# Altium schematic symbol library WCAP-ATG5.SchLib: 204 symbols (part 1 of 4)
Pins are listed as number, name and electrical type; pins without a type are passive.

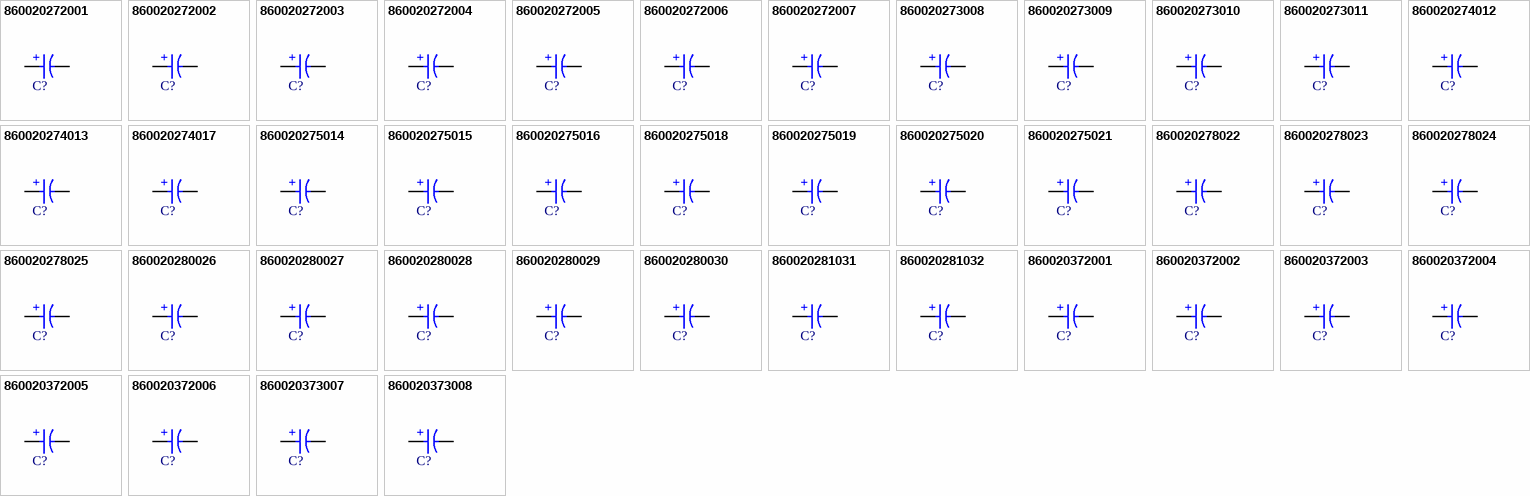
[diagram p0: symbols 860020272001 to 860020373008]

## 860020272001
designator C?, comment 22µF  (value not drawn)
WCAP-ATG5 Aluminum Electrolytic Capacitor, Radial, THT, D5 x H11mm, 22µF, 10V; Manufacturer Part Number: 860020272001; Manufacturer: Wurth Elektronik; Capacitance Tolerance: +/-20%; Dissipation Factor: 17%; Endurance: 2000h; Leakage Current: 3µA; Ripple Current: 45mA; Technical Reference: ATDC110220M010DSPA3B000; Category: Aluminum Electrolytic Capacitors; Match Code: WCAP-ATG5; ComponentLink1Description: Website Link; ComponentLink1URL: https://www.we-online.com/redexpert/article/860020272001?ad; ComponentLink2Description: Datasheet Link; ComponentLink2URL: https://www.we-online.com/redexpert/spec/860020272001?ad; Mount: Through Hole; Operating Temperature Max: 105°C; Operating Temperature Min: -40°C; Packaging: Ammo Pack; Height: 11mm; Diameter: 5mm; Capacitance: 22µF; Rated Voltage (DC): 10V
footprint WCAP-ATG5_D5H11
simulation model 860020272001_22uF
pins: 1 P, 2 N
text: +

## 860020272002
designator C?, comment 33µF  (value not drawn)
WCAP-ATG5 Aluminum Electrolytic Capacitor, Radial, THT, D5 x H11mm, 33µF, 10V; Manufacturer Part Number: 860020272002; Manufacturer: Wurth Elektronik; Capacitance Tolerance: +/-20%; Dissipation Factor: 17%; Endurance: 2000h; Leakage Current: 3.3µA; Ripple Current: 60mA; Technical Reference: ATDC110330M010DSPA3B000; Category: Aluminum Electrolytic Capacitors; Match Code: WCAP-ATG5; ComponentLink1Description: Website Link; ComponentLink1URL: https://www.we-online.com/redexpert/article/860020272002?ad; ComponentLink2Description: Datasheet Link; ComponentLink2URL: https://www.we-online.com/redexpert/spec/860020272002?ad; Mount: Through Hole; Operating Temperature Max: 105°C; Operating Temperature Min: -40°C; Packaging: Ammo Pack; Height: 11mm; Diameter: 5mm; Capacitance: 33µF; Rated Voltage (DC): 10V
footprint WCAP-ATG5_D5H11
simulation model 860020272002_33uF
pins: 1 P, 2 N
text: +

## 860020272003
designator C?, comment 47µF  (value not drawn)
WCAP-ATG5 Aluminum Electrolytic Capacitor, Radial, THT, D5 x H11mm, 47µF, 10V; Manufacturer Part Number: 860020272003; Manufacturer: Wurth Elektronik; Capacitance Tolerance: +/-20%; Dissipation Factor: 17%; Endurance: 2000h; Leakage Current: 4.7µA; Ripple Current: 70mA; Technical Reference: ATDC110470M010DSPA3B000; Category: Aluminum Electrolytic Capacitors; Match Code: WCAP-ATG5; ComponentLink1Description: Website Link; ComponentLink1URL: https://www.we-online.com/redexpert/article/860020272003?ad; ComponentLink2Description: Datasheet Link; ComponentLink2URL: https://www.we-online.com/redexpert/spec/860020272003?ad; Mount: Through Hole; Operating Temperature Max: 105°C; Operating Temperature Min: -40°C; Packaging: Ammo Pack; Height: 11mm; Diameter: 5mm; Capacitance: 47µF; Rated Voltage (DC): 10V
footprint WCAP-ATG5_D5H11
simulation model 860020272003_47uF
pins: 1 P, 2 N
text: +

## 860020272004
designator C?, comment 68µF  (value not drawn)
WCAP-ATG5 Aluminum Electrolytic Capacitor, Radial, THT, D5 x H11mm, 68µF, 10V; Manufacturer Part Number: 860020272004; Manufacturer: Wurth Elektronik; Capacitance Tolerance: +/-20%; Dissipation Factor: 17%; Endurance: 2000h; Leakage Current: 6.8µA; Ripple Current: 80mA; Technical Reference: ATDC110680M010DSPA3B000; Category: Aluminum Electrolytic Capacitors; Match Code: WCAP-ATG5; ComponentLink1Description: Website Link; ComponentLink1URL: https://www.we-online.com/redexpert/article/860020272004?ad; ComponentLink2Description: Datasheet Link; ComponentLink2URL: https://www.we-online.com/redexpert/spec/860020272004?ad; Mount: Through Hole; Operating Temperature Max: 105°C; Operating Temperature Min: -40°C; Packaging: Ammo Pack; Height: 11mm; Diameter: 5mm; Capacitance: 68µF; Rated Voltage (DC): 10V
footprint WCAP-ATG5_D5H11
simulation model 860020272004_68uF
pins: 1 P, 2 N
text: +

## 860020272005
designator C?, comment 100µF  (value not drawn)
WCAP-ATG5 Aluminum Electrolytic Capacitor, Radial, THT, D5 x H11mm, 100µF, 10V; Manufacturer Part Number: 860020272005; Manufacturer: Wurth Elektronik; Capacitance Tolerance: +/-20%; Dissipation Factor: 17%; Endurance: 2000h; Leakage Current: 10µA; Ripple Current: 105mA; Technical Reference: ATDC110101M010DSPA3B000; Category: Aluminum Electrolytic Capacitors; Match Code: WCAP-ATG5; ComponentLink1Description: Website Link; ComponentLink1URL: https://www.we-online.com/redexpert/article/860020272005?ad; ComponentLink2Description: Datasheet Link; ComponentLink2URL: https://www.we-online.com/redexpert/spec/860020272005?ad; Mount: Through Hole; Operating Temperature Max: 105°C; Operating Temperature Min: -40°C; Packaging: Ammo Pack; Height: 11mm; Diameter: 5mm; Capacitance: 100µF; Rated Voltage (DC): 10V
footprint WCAP-ATG5_D5H11
simulation model 860020272005_100uF
pins: 1 P, 2 N
text: +

## 860020272006
designator C?, comment 120µF  (value not drawn)
WCAP-ATG5 Aluminum Electrolytic Capacitor, Radial, THT, D5 x H11mm, 120µF, 10V; Manufacturer Part Number: 860020272006; Manufacturer: Wurth Elektronik; Capacitance Tolerance: +/-20%; Dissipation Factor: 17%; Endurance: 2000h; Leakage Current: 12µA; Ripple Current: 110mA; Technical Reference: ATDC110121M010DSPA3B000; Category: Aluminum Electrolytic Capacitors; Match Code: WCAP-ATG5; ComponentLink1Description: Website Link; ComponentLink1URL: https://www.we-online.com/redexpert/article/860020272006?ad; ComponentLink2Description: Datasheet Link; ComponentLink2URL: https://www.we-online.com/redexpert/spec/860020272006?ad; Mount: Through Hole; Operating Temperature Max: 105°C; Operating Temperature Min: -40°C; Packaging: Ammo Pack; Height: 11mm; Diameter: 5mm; Capacitance: 120µF; Rated Voltage (DC): 10V
footprint WCAP-ATG5_D5H11
simulation model 860020272006_120uF
pins: 1 P, 2 N
text: +

## 860020272007
designator C?, comment 150µF  (value not drawn)
WCAP-ATG5 Aluminum Electrolytic Capacitor, Radial, THT, D5 x H11mm, 150µF, 10V; Manufacturer Part Number: 860020272007; Manufacturer: Wurth Elektronik; Capacitance Tolerance: +/-20%; Dissipation Factor: 17%; Endurance: 2000h; Leakage Current: 15µA; Ripple Current: 120mA; Technical Reference: ATDC110151M010DSPA3B000; Category: Aluminum Electrolytic Capacitors; Match Code: WCAP-ATG5; ComponentLink1Description: Website Link; ComponentLink1URL: https://www.we-online.com/redexpert/article/860020272007?ad; ComponentLink2Description: Datasheet Link; ComponentLink2URL: https://www.we-online.com/redexpert/spec/860020272007?ad; Mount: Through Hole; Operating Temperature Max: 105°C; Operating Temperature Min: -40°C; Packaging: Ammo Pack; Height: 11mm; Diameter: 5mm; Capacitance: 150µF; Rated Voltage (DC): 10V
footprint WCAP-ATG5_D5H11
simulation model 860020272007_150uF
pins: 1 P, 2 N
text: +

## 860020273008
designator C?, comment 180µF  (value not drawn)
WCAP-ATG5 Aluminum Electrolytic Capacitor, Radial, THT, D6.3 x H11mm, 180µF, 10V; Manufacturer Part Number: 860020273008; Manufacturer: Wurth Elektronik; Capacitance Tolerance: +/-20%; Dissipation Factor: 17%; Endurance: 2000h; Leakage Current: 18µA; Ripple Current: 160mA; Technical Reference: ATDD110181M010DSPA4B000; Category: Aluminum Electrolytic Capacitors; Match Code: WCAP-ATG5; ComponentLink1Description: Website Link; ComponentLink1URL: https://www.we-online.com/redexpert/article/860020273008?ad; ComponentLink2Description: Datasheet Link; ComponentLink2URL: https://www.we-online.com/redexpert/spec/860020273008?ad; Mount: Through Hole; Operating Temperature Max: 105°C; Operating Temperature Min: -40°C; Packaging: Ammo Pack; Height: 11mm; Diameter: 6.3mm; Capacitance: 180µF; Rated Voltage (DC): 10V
footprint WCAP-ATG5_D6.3H11
simulation model 860020273008_180uF
pins: 1 P, 2 N
text: +

## 860020273009
designator C?, comment 220µF  (value not drawn)
WCAP-ATG5 Aluminum Electrolytic Capacitor, Radial, THT, D6.3 x H11mm, 220µF, 10V; Manufacturer Part Number: 860020273009; Manufacturer: Wurth Elektronik; Capacitance Tolerance: +/-20%; Dissipation Factor: 17%; Endurance: 2000h; Leakage Current: 22µA; Ripple Current: 175mA; Technical Reference: ATDD110221M010DSPA4B000; Category: Aluminum Electrolytic Capacitors; Match Code: WCAP-ATG5; ComponentLink1Description: Website Link; ComponentLink1URL: https://www.we-online.com/redexpert/article/860020273009?ad; ComponentLink2Description: Datasheet Link; ComponentLink2URL: https://www.we-online.com/redexpert/spec/860020273009?ad; Mount: Through Hole; Operating Temperature Max: 105°C; Operating Temperature Min: -40°C; Packaging: Ammo Pack; Height: 11mm; Diameter: 6.3mm; Capacitance: 220µF; Rated Voltage (DC): 10V
footprint WCAP-ATG5_D6.3H11
simulation model 860020273009_220uF
pins: 1 P, 2 N
text: +

## 860020273010
designator C?, comment 330µF  (value not drawn)
WCAP-ATG5 Aluminum Electrolytic Capacitor, Radial, THT, D6.3 x H11mm, 330µF, 10V; Manufacturer Part Number: 860020273010; Manufacturer: Wurth Elektronik; Capacitance Tolerance: +/-20%; Dissipation Factor: 17%; Endurance: 2000h; Leakage Current: 33µA; Ripple Current: 205mA; Technical Reference: ATDD110331M010DSPA4B000; Category: Aluminum Electrolytic Capacitors; Match Code: WCAP-ATG5; ComponentLink1Description: Website Link; ComponentLink1URL: https://www.we-online.com/redexpert/article/860020273010?ad; ComponentLink2Description: Datasheet Link; ComponentLink2URL: https://www.we-online.com/redexpert/spec/860020273010?ad; Mount: Through Hole; Operating Temperature Max: 105°C; Operating Temperature Min: -40°C; Packaging: Ammo Pack; Height: 11mm; Diameter: 6.3mm; Capacitance: 330µF; Rated Voltage (DC): 10V
footprint WCAP-ATG5_D6.3H11
simulation model 860020273010_330uF
pins: 1 P, 2 N
text: +

## 860020273011
designator C?, comment 470µF  (value not drawn)
WCAP-ATG5 Aluminum Electrolytic Capacitor, Radial, THT, D6.3 x H11mm, 470µF, 10V; Manufacturer Part Number: 860020273011; Manufacturer: Wurth Elektronik; Capacitance Tolerance: +/-20%; Dissipation Factor: 17%; Endurance: 2000h; Leakage Current: 47µA; Ripple Current: 235mA; Technical Reference: ATDD110471M010DSPA4B000; Category: Aluminum Electrolytic Capacitors; Match Code: WCAP-ATG5; ComponentLink1Description: Website Link; ComponentLink1URL: https://www.we-online.com/redexpert/article/860020273011?ad; ComponentLink2Description: Datasheet Link; ComponentLink2URL: https://www.we-online.com/redexpert/spec/860020273011?ad; Mount: Through Hole; Operating Temperature Max: 105°C; Operating Temperature Min: -40°C; Packaging: Ammo Pack; Height: 11mm; Diameter: 6.3mm; Capacitance: 470µF; Rated Voltage (DC): 10V
footprint WCAP-ATG5_D6.3H11
simulation model 860020273011_470uF
pins: 1 P, 2 N
text: +

## 860020274012
designator C?, comment 560µF  (value not drawn)
WCAP-ATG5 Aluminum Electrolytic Capacitor, Radial, THT, D8 x H11.5mm, 560µF, 10V; Manufacturer Part Number: 860020274012; Manufacturer: Wurth Elektronik; Capacitance Tolerance: +/-20%; Dissipation Factor: 17%; Endurance: 2000h; Leakage Current: 56µA; Ripple Current: 330mA; Technical Reference: ATDE115561M010DSPA7B000; Category: Aluminum Electrolytic Capacitors; Match Code: WCAP-ATG5; ComponentLink1Description: Website Link; ComponentLink1URL: https://www.we-online.com/redexpert/article/860020274012?ad; ComponentLink2Description: Datasheet Link; ComponentLink2URL: https://www.we-online.com/redexpert/spec/860020274012?ad; Mount: Through Hole; Operating Temperature Max: 105°C; Operating Temperature Min: -40°C; Packaging: Ammo Pack; Height: 11.5mm; Diameter: 8mm; Capacitance: 560µF; Rated Voltage (DC): 10V
footprint WCAP-ATG5_D8H11.5
simulation model 860020274012_560uF
pins: 1 P, 2 N
text: +

## 860020274013
designator C?, comment 680µF  (value not drawn)
WCAP-ATG5 Aluminum Electrolytic Capacitor, Radial, THT, D8 x H11.5mm, 680µF, 10V; Manufacturer Part Number: 860020274013; Manufacturer: Wurth Elektronik; Capacitance Tolerance: +/-20%; Dissipation Factor: 17%; Endurance: 2000h; Leakage Current: 68µA; Ripple Current: 365mA; Technical Reference: ATDE115681M010DSPA7B000; Category: Aluminum Electrolytic Capacitors; Match Code: WCAP-ATG5; ComponentLink1Description: Website Link; ComponentLink1URL: https://www.we-online.com/redexpert/article/860020274013?ad; ComponentLink2Description: Datasheet Link; ComponentLink2URL: https://www.we-online.com/redexpert/spec/860020274013?ad; Mount: Through Hole; Operating Temperature Max: 105°C; Operating Temperature Min: -40°C; Packaging: Ammo Pack; Height: 11.5mm; Diameter: 8mm; Capacitance: 680µF; Rated Voltage (DC): 10V
footprint WCAP-ATG5_D8H11.5
simulation model 860020274013_680uF
pins: 1 P, 2 N
text: +

## 860020274017
designator C?, comment 1500µF  (value not drawn)
WCAP-ATG5 Aluminum Electrolytic Capacitor, Radial, THT, D8 x H20mm, 1500µF, 10V; Manufacturer Part Number: 860020274017; Manufacturer: Wurth Elektronik; Capacitance Tolerance: +/-20%; Dissipation Factor: 17%; Endurance: 2000h; Leakage Current: 150µA; Ripple Current: 715mA; Technical Reference: ATDE200152M010DSPA7B000; Category: Aluminum Electrolytic Capacitors; Match Code: WCAP-ATG5; ComponentLink1Description: Website Link; ComponentLink1URL: https://www.we-online.com/redexpert/article/860020274017?ad; ComponentLink2Description: Datasheet Link; ComponentLink2URL: https://www.we-online.com/redexpert/spec/860020274017?ad; Mount: Through Hole; Operating Temperature Max: 105°C; Operating Temperature Min: -40°C; Packaging: Ammo Pack; Height: 20mm; Diameter: 8mm; Capacitance: 1500µF; Rated Voltage (DC): 10V
footprint WCAP-ATG5_D8H20
simulation model 860020274017_1.5mF
pins: 1 P, 2 N
text: +

## 860020275014
designator C?, comment 820µF  (value not drawn)
WCAP-ATG5 Aluminum Electrolytic Capacitor, Radial, THT, D10 x H12.5mm, 820µF, 10V; Manufacturer Part Number: 860020275014; Manufacturer: Wurth Elektronik; Capacitance Tolerance: +/-20%; Dissipation Factor: 17%; Endurance: 2000h; Leakage Current: 82µA; Ripple Current: 480mA; Technical Reference: ATDF125821M010DSPA9B000; Category: Aluminum Electrolytic Capacitors; Match Code: WCAP-ATG5; ComponentLink1Description: Website Link; ComponentLink1URL: https://www.we-online.com/redexpert/article/860020275014?ad; ComponentLink2Description: Datasheet Link; ComponentLink2URL: https://www.we-online.com/redexpert/spec/860020275014?ad; Mount: Through Hole; Operating Temperature Max: 105°C; Operating Temperature Min: -40°C; Packaging: Ammo Pack; Height: 12.5mm; Diameter: 10mm; Capacitance: 820µF; Rated Voltage (DC): 10V
footprint WCAP-ATG5_D10H12.5
simulation model 860020275014_820uF
pins: 1 P, 2 N
text: +

## 860020275015
designator C?, comment 1000µF  (value not drawn)
WCAP-ATG5 Aluminum Electrolytic Capacitor, Radial, THT, D10 x H12.5mm, 1000µF, 10V; Manufacturer Part Number: 860020275015; Manufacturer: Wurth Elektronik; Capacitance Tolerance: +/-20%; Dissipation Factor: 17%; Endurance: 2000h; Leakage Current: 100µA; Ripple Current: 520mA; Technical Reference: ATDF125102M010DSPA9B000; Category: Aluminum Electrolytic Capacitors; Match Code: WCAP-ATG5; ComponentLink1Description: Website Link; ComponentLink1URL: https://www.we-online.com/redexpert/article/860020275015?ad; ComponentLink2Description: Datasheet Link; ComponentLink2URL: https://www.we-online.com/redexpert/spec/860020275015?ad; Mount: Through Hole; Operating Temperature Max: 105°C; Operating Temperature Min: -40°C; Packaging: Ammo Pack; Height: 12.5mm; Diameter: 10mm; Capacitance: 1000µF; Rated Voltage (DC): 10V
footprint WCAP-ATG5_D10H12.5
simulation model 860020275015_1mF
pins: 1 P, 2 N
text: +

## 860020275016
designator C?, comment 1200µF  (value not drawn)
WCAP-ATG5 Aluminum Electrolytic Capacitor, Radial, THT, D10 x H16mm, 1200µF, 10V; Manufacturer Part Number: 860020275016; Manufacturer: Wurth Elektronik; Capacitance Tolerance: +/-20%; Dissipation Factor: 17%; Endurance: 2000h; Leakage Current: 120µA; Ripple Current: 630mA; Technical Reference: ATDF160122M010DSPAAB000; Category: Aluminum Electrolytic Capacitors; Match Code: WCAP-ATG5; ComponentLink1Description: Website Link; ComponentLink1URL: https://www.we-online.com/redexpert/article/860020275016?ad; ComponentLink2Description: Datasheet Link; ComponentLink2URL: https://www.we-online.com/redexpert/spec/860020275016?ad; Mount: Through Hole; Operating Temperature Max: 105°C; Operating Temperature Min: -40°C; Packaging: Ammo Pack; Height: 16mm; Diameter: 10mm; Capacitance: 1200µF; Rated Voltage (DC): 10V
footprint WCAP-ATG5_D10H16
simulation model 860020275016_1.2mF
pins: 1 P, 2 N
text: +

## 860020275018
designator C?, comment 1500µF  (value not drawn)
WCAP-ATG5 Aluminum Electrolytic Capacitor, Radial, THT, D10 x H16mm, 1500µF, 10V; Manufacturer Part Number: 860020275018; Manufacturer: Wurth Elektronik; Capacitance Tolerance: +/-20%; Dissipation Factor: 17%; Endurance: 2000h; Leakage Current: 150µA; Ripple Current: 770mA; Technical Reference: ATDF160152M010DSPAAB000; Category: Aluminum Electrolytic Capacitors; Match Code: WCAP-ATG5; ComponentLink1Description: Website Link; ComponentLink1URL: https://www.we-online.com/redexpert/article/860020275018?ad; ComponentLink2Description: Datasheet Link; ComponentLink2URL: https://www.we-online.com/redexpert/spec/860020275018?ad; Mount: Through Hole; Operating Temperature Max: 105°C; Operating Temperature Min: -40°C; Packaging: Ammo Pack; Height: 16mm; Diameter: 10mm; Capacitance: 1500µF; Rated Voltage (DC): 10V
footprint WCAP-ATG5_D10H16
simulation model 860020275018_1.5mF
pins: 1 P, 2 N
text: +

## 860020275019
designator C?, comment 1800µF  (value not drawn)
WCAP-ATG5 Aluminum Electrolytic Capacitor, Radial, THT, D10 x H20mm, 1800µF, 10V; Manufacturer Part Number: 860020275019; Manufacturer: Wurth Elektronik; Capacitance Tolerance: +/-20%; Dissipation Factor: 17%; Endurance: 2000h; Leakage Current: 180µA; Ripple Current: 820mA; Technical Reference: ATDF200182M010DSPAAB000; Category: Aluminum Electrolytic Capacitors; Match Code: WCAP-ATG5; ComponentLink1Description: Website Link; ComponentLink1URL: https://www.we-online.com/redexpert/article/860020275019?ad; ComponentLink2Description: Datasheet Link; ComponentLink2URL: https://www.we-online.com/redexpert/spec/860020275019?ad; Mount: Through Hole; Operating Temperature Max: 105°C; Operating Temperature Min: -40°C; Packaging: Ammo Pack; Height: 20mm; Diameter: 10mm; Capacitance: 1800µF; Rated Voltage (DC): 10V
footprint WCAP-ATG5_D10H20
simulation model 860020275019_1.8mF
pins: 1 P, 2 N
text: +

## 860020275020
designator C?, comment 2200µF  (value not drawn)
WCAP-ATG5 Aluminum Electrolytic Capacitor, Radial, THT, D10 x H20mm, 2200µF, 10V; Manufacturer Part Number: 860020275020; Manufacturer: Wurth Elektronik; Capacitance Tolerance: +/-20%; Dissipation Factor: 17%; Endurance: 2000h; Leakage Current: 220µA; Ripple Current: 860mA; Technical Reference: ATDF200222M010DSPAAB000; Category: Aluminum Electrolytic Capacitors; Match Code: WCAP-ATG5; ComponentLink1Description: Website Link; ComponentLink1URL: https://www.we-online.com/redexpert/article/860020275020?ad; ComponentLink2Description: Datasheet Link; ComponentLink2URL: https://www.we-online.com/redexpert/spec/860020275020?ad; Mount: Through Hole; Operating Temperature Max: 105°C; Operating Temperature Min: -40°C; Packaging: Ammo Pack; Height: 20mm; Diameter: 10mm; Capacitance: 2200µF; Rated Voltage (DC): 10V
footprint WCAP-ATG5_D10H20
simulation model 860020275020_2.2mF
pins: 1 P, 2 N
text: +

## 860020275021
designator C?, comment 2700µF  (value not drawn)
WCAP-ATG5 Aluminum Electrolytic Capacitor, Radial, THT, D10 x H25mm, 2700µF, 10V; Manufacturer Part Number: 860020275021; Manufacturer: Wurth Elektronik; Capacitance Tolerance: +/-20%; Dissipation Factor: 17%; Endurance: 2000h; Leakage Current: 270µA; Ripple Current: 880mA; Technical Reference: ATDF250272M010DSPAAB000; Category: Aluminum Electrolytic Capacitors; Match Code: WCAP-ATG5; ComponentLink1Description: Website Link; ComponentLink1URL: https://www.we-online.com/redexpert/article/860020275021?ad; ComponentLink2Description: Datasheet Link; ComponentLink2URL: https://www.we-online.com/redexpert/spec/860020275021?ad; Mount: Through Hole; Operating Temperature Max: 105°C; Operating Temperature Min: -40°C; Packaging: Ammo Pack; Height: 25mm; Diameter: 10mm; Capacitance: 2700µF; Rated Voltage (DC): 10V
footprint WCAP-ATG5_D10H25
simulation model 860020275021_2.7mF
pins: 1 P, 2 N
text: +

## 860020278022
designator C?, comment 2700µF  (value not drawn)
WCAP-ATG5 Aluminum Electrolytic Capacitor, Radial, THT, D13 x H20mm, 2700µF, 10V; Manufacturer Part Number: 860020278022; Manufacturer: Wurth Elektronik; Capacitance Tolerance: +/-20%; Dissipation Factor: 17%; Endurance: 2000h; Leakage Current: 270µA; Ripple Current: 920mA; Technical Reference: ATDI200272M010DSPACB000; Category: Aluminum Electrolytic Capacitors; Match Code: WCAP-ATG5; ComponentLink1Description: Website Link; ComponentLink1URL: https://www.we-online.com/redexpert/article/860020278022?ad; ComponentLink2Description: Datasheet Link; ComponentLink2URL: https://www.we-online.com/redexpert/spec/860020278022?ad; Mount: Through Hole; Operating Temperature Max: 105°C; Operating Temperature Min: -40°C; Packaging: Ammo Pack; Height: 20mm; Diameter: 13mm; Capacitance: 2700µF; Rated Voltage (DC): 10V
footprint WCAP-ATG5_D13H20
simulation model 860020278022_2.7mF
pins: 1 P, 2 N
text: +

## 860020278023
designator C?, comment 3300µF  (value not drawn)
WCAP-ATG5 Aluminum Electrolytic Capacitor, Radial, THT, D13 x H20mm, 3300µF, 10V; Manufacturer Part Number: 860020278023; Manufacturer: Wurth Elektronik; Capacitance Tolerance: +/-20%; Dissipation Factor: 17%; Endurance: 2000h; Leakage Current: 330µA; Ripple Current: 1100mA; Technical Reference: ATDI200332M010DSPACB000; Category: Aluminum Electrolytic Capacitors; Match Code: WCAP-ATG5; ComponentLink1Description: Website Link; ComponentLink1URL: https://www.we-online.com/redexpert/article/860020278023?ad; ComponentLink2Description: Datasheet Link; ComponentLink2URL: https://www.we-online.com/redexpert/spec/860020278023?ad; Mount: Through Hole; Operating Temperature Max: 105°C; Operating Temperature Min: -40°C; Packaging: Ammo Pack; Height: 20mm; Diameter: 13mm; Capacitance: 3300µF; Rated Voltage (DC): 10V
footprint WCAP-ATG5_D13H20
simulation model 860020278023_3.3mF
pins: 1 P, 2 N
text: +

## 860020278024
designator C?, comment 3900µF  (value not drawn)
WCAP-ATG5 Aluminum Electrolytic Capacitor, Radial, THT, D13 x H20mm, 3900µF, 10V; Manufacturer Part Number: 860020278024; Manufacturer: Wurth Elektronik; Capacitance Tolerance: +/-20%; Dissipation Factor: 17%; Endurance: 2000h; Leakage Current: 390µA; Ripple Current: 1280mA; Technical Reference: ATDI200392M010DSPACB000; Category: Aluminum Electrolytic Capacitors; Match Code: WCAP-ATG5; ComponentLink1Description: Website Link; ComponentLink1URL: https://www.we-online.com/redexpert/article/860020278024?ad; ComponentLink2Description: Datasheet Link; ComponentLink2URL: https://www.we-online.com/redexpert/spec/860020278024?ad; Mount: Through Hole; Operating Temperature Max: 105°C; Operating Temperature Min: -40°C; Packaging: Ammo Pack; Height: 20mm; Diameter: 13mm; Capacitance: 3900µF; Rated Voltage (DC): 10V
footprint WCAP-ATG5_D13H20
simulation model 860020278024_3.9mF
pins: 1 P, 2 N
text: +

## 860020278025
designator C?, comment 4700µF  (value not drawn)
WCAP-ATG5 Aluminum Electrolytic Capacitor, Radial, THT, D13 x H25mm, 4700µF, 10V; Manufacturer Part Number: 860020278025; Manufacturer: Wurth Elektronik; Capacitance Tolerance: +/-20%; Dissipation Factor: 17%; Endurance: 2000h; Leakage Current: 470µA; Ripple Current: 1350mA; Technical Reference: ATDI250472M010DSPACB000; Category: Aluminum Electrolytic Capacitors; Match Code: WCAP-ATG5; ComponentLink1Description: Website Link; ComponentLink1URL: https://www.we-online.com/redexpert/article/860020278025?ad; ComponentLink2Description: Datasheet Link; ComponentLink2URL: https://www.we-online.com/redexpert/spec/860020278025?ad; Mount: Through Hole; Operating Temperature Max: 105°C; Operating Temperature Min: -40°C; Packaging: Ammo Pack; Height: 25mm; Diameter: 13mm; Capacitance: 4700µF; Rated Voltage (DC): 10V
footprint WCAP-ATG5_D13H25
simulation model 860020278025_4.7mF
pins: 1 P, 2 N
text: +

## 860020280026
designator C?, comment 5600µF  (value not drawn)
WCAP-ATG5 Aluminum Electrolytic Capacitor, Radial, THT, D16 x H25mm, 5600µF, 10V; Manufacturer Part Number: 860020280026; Manufacturer: Wurth Elektronik; Capacitance Tolerance: +/-20%; Dissipation Factor: 17%; Endurance: 2000h; Leakage Current: 560µA; Ripple Current: 1490mA; Technical Reference: ATDK250562M010DSPAEB000; Category: Aluminum Electrolytic Capacitors; Match Code: WCAP-ATG5; ComponentLink1Description: Website Link; ComponentLink1URL: https://www.we-online.com/redexpert/article/860020280026?ad; ComponentLink2Description: Datasheet Link; ComponentLink2URL: https://www.we-online.com/redexpert/spec/860020280026?ad; Mount: Through Hole; Operating Temperature Max: 105°C; Operating Temperature Min: -40°C; Packaging: Ammo Pack; Height: 25mm; Diameter: 16mm; Capacitance: 5600µF; Rated Voltage (DC): 10V
footprint WCAP-ATG5_D16H25
simulation model 860020280026_5.6mF
pins: 1 P, 2 N
text: +

## 860020280027
designator C?, comment 6800µF  (value not drawn)
WCAP-ATG5 Aluminum Electrolytic Capacitor, Radial, THT, D16 x H25mm, 6800µF, 10V; Manufacturer Part Number: 860020280027; Manufacturer: Wurth Elektronik; Capacitance Tolerance: +/-20%; Dissipation Factor: 17%; Endurance: 2000h; Leakage Current: 680µA; Ripple Current: 1670mA; Technical Reference: ATDK250682M010DSPAEB000; Category: Aluminum Electrolytic Capacitors; Match Code: WCAP-ATG5; ComponentLink1Description: Website Link; ComponentLink1URL: https://www.we-online.com/redexpert/article/860020280027?ad; ComponentLink2Description: Datasheet Link; ComponentLink2URL: https://www.we-online.com/redexpert/spec/860020280027?ad; Mount: Through Hole; Operating Temperature Max: 105°C; Operating Temperature Min: -40°C; Packaging: Ammo Pack; Height: 25mm; Diameter: 16mm; Capacitance: 6800µF; Rated Voltage (DC): 10V
footprint WCAP-ATG5_D16H25
simulation model 860020280027_6.8mF
pins: 1 P, 2 N
text: +

## 860020280028
designator C?, comment 8200µF  (value not drawn)
WCAP-ATG5 Aluminum Electrolytic Capacitor, Radial, THT, D16 x H31.5mm, 8200µF, 10V; Manufacturer Part Number: 860020280028; Manufacturer: Wurth Elektronik; Capacitance Tolerance: +/-20%; Dissipation Factor: 17%; Endurance: 2000h; Leakage Current: 820µA; Ripple Current: 1840mA; Technical Reference: ATDK315822M010DSPADB000; Category: Aluminum Electrolytic Capacitors; Match Code: WCAP-ATG5; ComponentLink1Description: Website Link; ComponentLink1URL: https://www.we-online.com/redexpert/article/860020280028?ad; ComponentLink2Description: Datasheet Link; ComponentLink2URL: https://www.we-online.com/redexpert/spec/860020280028?ad; Mount: Through Hole; Operating Temperature Max: 105°C; Operating Temperature Min: -40°C; Packaging: Ammo Pack; Height: 31.5mm; Diameter: 16mm; Capacitance: 8200µF; Rated Voltage (DC): 10V
footprint WCAP-ATG5_D16H31.5
simulation model 860020280028_8.2mF
pins: 1 P, 2 N
text: +

## 860020280029
designator C?, comment 10000µF  (value not drawn)
WCAP-ATG5 Aluminum Electrolytic Capacitor, Radial, THT, D16 x H35.5mm, 10000µF, 10V; Manufacturer Part Number: 860020280029; Manufacturer: Wurth Elektronik; Capacitance Tolerance: +/-20%; Dissipation Factor: 17%; Endurance: 2000h; Leakage Current: 1000µA; Ripple Current: 1900mA; Technical Reference: ATDK355103M010DSPADB000; Category: Aluminum Electrolytic Capacitors; Match Code: WCAP-ATG5; ComponentLink1Description: Website Link; ComponentLink1URL: https://www.we-online.com/redexpert/article/860020280029?ad; ComponentLink2Description: Datasheet Link; ComponentLink2URL: https://www.we-online.com/redexpert/spec/860020280029?ad; Mount: Through Hole; Operating Temperature Max: 105°C; Operating Temperature Min: -40°C; Packaging: Ammo Pack; Height: 35.5mm; Diameter: 16mm; Capacitance: 10000µF; Rated Voltage (DC): 10V
footprint WCAP-ATG5_D16H35.5
simulation model 860020280029_10mF
pins: 1 P, 2 N
text: +

## 860020280030
designator C?, comment 12000µF  (value not drawn)
WCAP-ATG5 Aluminum Electrolytic Capacitor, Radial, THT, D16 x H35.5mm, 12000µF, 10V; Manufacturer Part Number: 860020280030; Manufacturer: Wurth Elektronik; Capacitance Tolerance: +/-20%; Dissipation Factor: 17%; Endurance: 2000h; Leakage Current: 1200µA; Ripple Current: 2050mA; Technical Reference: ATDK355123M010DSPADB000; Category: Aluminum Electrolytic Capacitors; Match Code: WCAP-ATG5; ComponentLink1Description: Website Link; ComponentLink1URL: https://www.we-online.com/redexpert/article/860020280030?ad; ComponentLink2Description: Datasheet Link; ComponentLink2URL: https://www.we-online.com/redexpert/spec/860020280030?ad; Mount: Through Hole; Operating Temperature Max: 105°C; Operating Temperature Min: -40°C; Packaging: Ammo Pack; Height: 35.5mm; Diameter: 16mm; Capacitance: 12000µF; Rated Voltage (DC): 10V
footprint WCAP-ATG5_D16H35.5
simulation model 860020280030_12mF
pins: 1 P, 2 N
text: +

## 860020281031
designator C?, comment 15000µF  (value not drawn)
WCAP-ATG5 Aluminum Electrolytic Capacitor, Radial, THT, D18 x H35.5mm, 15000µF, 10V; Manufacturer Part Number: 860020281031; Manufacturer: Wurth Elektronik; Capacitance Tolerance: +/-20%; Dissipation Factor: 17%; Endurance: 2000h; Leakage Current: 1500µA; Ripple Current: 2180mA; Technical Reference: ATDL355153M010DSPAEB000; Category: Aluminum Electrolytic Capacitors; Match Code: WCAP-ATG5; ComponentLink1Description: Website Link; ComponentLink1URL: https://www.we-online.com/redexpert/article/860020281031?ad; ComponentLink2Description: Datasheet Link; ComponentLink2URL: https://www.we-online.com/redexpert/spec/860020281031?ad; Mount: Through Hole; Operating Temperature Max: 105°C; Operating Temperature Min: -40°C; Packaging: Ammo Pack; Height: 35.5mm; Diameter: 18mm; Capacitance: 15000µF; Rated Voltage (DC): 10V
footprint WCAP-ATG5_D18H35.5
simulation model 860020281031_15mF
pins: 1 P, 2 N
text: +

## 860020281032
designator C?, comment 18000µF  (value not drawn)
WCAP-ATG5 Aluminum Electrolytic Capacitor, Radial, THT, D18 x H35.5mm, 18000µF, 10V; Manufacturer Part Number: 860020281032; Manufacturer: Wurth Elektronik; Capacitance Tolerance: +/-20%; Dissipation Factor: 17%; Endurance: 2000h; Leakage Current: 1800µA; Ripple Current: 2205mA; Technical Reference: ATDL355183M010DSPAEB000; Category: Aluminum Electrolytic Capacitors; Match Code: WCAP-ATG5; ComponentLink1Description: Website Link; ComponentLink1URL: https://www.we-online.com/redexpert/article/860020281032?ad; ComponentLink2Description: Datasheet Link; ComponentLink2URL: https://www.we-online.com/redexpert/spec/860020281032?ad; Mount: Through Hole; Operating Temperature Max: 105°C; Operating Temperature Min: -40°C; Packaging: Ammo Pack; Height: 35.5mm; Diameter: 18mm; Capacitance: 18000µF; Rated Voltage (DC): 10V
footprint WCAP-ATG5_D18H35.5
simulation model 860020281032_18mF
pins: 1 P, 2 N
text: +

## 860020372001
designator C?, comment 10µF  (value not drawn)
WCAP-ATG5 Aluminum Electrolytic Capacitor, Radial, THT, D5 x H11mm, 10µF, 16V; Manufacturer Part Number: 860020372001; Manufacturer: Wurth Elektronik; Capacitance Tolerance: +/-20%; Dissipation Factor: 15%; Endurance: 2000h; Leakage Current: 3µA; Ripple Current: 35mA; Technical Reference: ATDC110100M016DSPA3B000; Category: Aluminum Electrolytic Capacitors; Match Code: WCAP-ATG5; ComponentLink1Description: Website Link; ComponentLink1URL: https://www.we-online.com/redexpert/article/860020372001?ad; ComponentLink2Description: Datasheet Link; ComponentLink2URL: https://www.we-online.com/redexpert/spec/860020372001?ad; Mount: Through Hole; Operating Temperature Max: 105°C; Operating Temperature Min: -40°C; Packaging: Ammo Pack; Height: 11mm; Diameter: 5mm; Capacitance: 10µF; Rated Voltage (DC): 16V
footprint WCAP-ATG5_D5H11
simulation model 860020372001_10uF
pins: 1 P, 2 N
text: +

## 860020372002
designator C?, comment 22µF  (value not drawn)
WCAP-ATG5 Aluminum Electrolytic Capacitor, Radial, THT, D5 x H11mm, 22µF, 16V; Manufacturer Part Number: 860020372002; Manufacturer: Wurth Elektronik; Capacitance Tolerance: +/-20%; Dissipation Factor: 15%; Endurance: 2000h; Leakage Current: 3.52µA; Ripple Current: 54mA; Technical Reference: ATDC110220M016DSPA3B000; Category: Aluminum Electrolytic Capacitors; Match Code: WCAP-ATG5; ComponentLink1Description: Website Link; ComponentLink1URL: https://www.we-online.com/redexpert/article/860020372002?ad; ComponentLink2Description: Datasheet Link; ComponentLink2URL: https://www.we-online.com/redexpert/spec/860020372002?ad; Mount: Through Hole; Operating Temperature Max: 105°C; Operating Temperature Min: -40°C; Packaging: Ammo Pack; Height: 11mm; Diameter: 5mm; Capacitance: 22µF; Rated Voltage (DC): 16V
footprint WCAP-ATG5_D5H11
simulation model 860020372002_22uF
pins: 1 P, 2 N
text: +

## 860020372003
designator C?, comment 33µF  (value not drawn)
WCAP-ATG5 Aluminum Electrolytic Capacitor, Radial, THT, D5 x H11mm, 33µF, 16V; Manufacturer Part Number: 860020372003; Manufacturer: Wurth Elektronik; Capacitance Tolerance: +/-20%; Dissipation Factor: 15%; Endurance: 2000h; Leakage Current: 5.28µA; Ripple Current: 64mA; Technical Reference: ATDC110330M016DSPA3B000; Category: Aluminum Electrolytic Capacitors; Match Code: WCAP-ATG5; ComponentLink1Description: Website Link; ComponentLink1URL: https://www.we-online.com/redexpert/article/860020372003?ad; ComponentLink2Description: Datasheet Link; ComponentLink2URL: https://www.we-online.com/redexpert/spec/860020372003?ad; Mount: Through Hole; Operating Temperature Max: 105°C; Operating Temperature Min: -40°C; Packaging: Ammo Pack; Height: 11mm; Diameter: 5mm; Capacitance: 33µF; Rated Voltage (DC): 16V
footprint WCAP-ATG5_D5H11
simulation model 860020372003_33uF
pins: 1 P, 2 N
text: +

## 860020372004
designator C?, comment 47µF  (value not drawn)
WCAP-ATG5 Aluminum Electrolytic Capacitor, Radial, THT, D5 x H11mm, 47µF, 16V; Manufacturer Part Number: 860020372004; Manufacturer: Wurth Elektronik; Capacitance Tolerance: +/-20%; Dissipation Factor: 15%; Endurance: 2000h; Leakage Current: 7.52µA; Ripple Current: 100mA; Technical Reference: ATDC110470M016DSPA3B000; Category: Aluminum Electrolytic Capacitors; Match Code: WCAP-ATG5; ComponentLink1Description: Website Link; ComponentLink1URL: https://www.we-online.com/redexpert/article/860020372004?ad; ComponentLink2Description: Datasheet Link; ComponentLink2URL: https://www.we-online.com/redexpert/spec/860020372004?ad; Mount: Through Hole; Operating Temperature Max: 105°C; Operating Temperature Min: -40°C; Packaging: Ammo Pack; Height: 11mm; Diameter: 5mm; Capacitance: 47µF; Rated Voltage (DC): 16V
footprint WCAP-ATG5_D5H11
simulation model 860020372004_47uF
pins: 1 P, 2 N
text: +

## 860020372005
designator C?, comment 68µF  (value not drawn)
WCAP-ATG5 Aluminum Electrolytic Capacitor, Radial, THT, D5 x H11mm, 68µF, 16V; Manufacturer Part Number: 860020372005; Manufacturer: Wurth Elektronik; Capacitance Tolerance: +/-20%; Dissipation Factor: 15%; Endurance: 2000h; Leakage Current: 10.88µA; Ripple Current: 105mA; Technical Reference: ATDC110680M016DSPA3B000; Category: Aluminum Electrolytic Capacitors; Match Code: WCAP-ATG5; ComponentLink1Description: Website Link; ComponentLink1URL: https://www.we-online.com/redexpert/article/860020372005?ad; ComponentLink2Description: Datasheet Link; ComponentLink2URL: https://www.we-online.com/redexpert/spec/860020372005?ad; Mount: Through Hole; Operating Temperature Max: 105°C; Operating Temperature Min: -40°C; Packaging: Ammo Pack; Height: 11mm; Diameter: 5mm; Capacitance: 68µF; Rated Voltage (DC): 16V
footprint WCAP-ATG5_D5H11
simulation model 860020372005_68uF
pins: 1 P, 2 N
text: +

## 860020372006
designator C?, comment 100µF  (value not drawn)
WCAP-ATG5 Aluminum Electrolytic Capacitor, Radial, THT, D5 x H11mm, 100µF, 16V; Manufacturer Part Number: 860020372006; Manufacturer: Wurth Elektronik; Capacitance Tolerance: +/-20%; Dissipation Factor: 15%; Endurance: 2000h; Leakage Current: 16µA; Ripple Current: 115mA; Technical Reference: ATDC110101M016DSPA3B000; Category: Aluminum Electrolytic Capacitors; Match Code: WCAP-ATG5; ComponentLink1Description: Website Link; ComponentLink1URL: https://www.we-online.com/redexpert/article/860020372006?ad; ComponentLink2Description: Datasheet Link; ComponentLink2URL: https://www.we-online.com/redexpert/spec/860020372006?ad; Mount: Through Hole; Operating Temperature Max: 105°C; Operating Temperature Min: -40°C; Packaging: Ammo Pack; Height: 11mm; Diameter: 5mm; Capacitance: 100µF; Rated Voltage (DC): 16V
footprint WCAP-ATG5_D5H11
simulation model 860020372006_100uF
pins: 1 P, 2 N
text: +

## 860020373007
designator C?, comment 120µF  (value not drawn)
WCAP-ATG5 Aluminum Electrolytic Capacitor, Radial, THT, D6.3 x H11mm, 120µF, 16V; Manufacturer Part Number: 860020373007; Manufacturer: Wurth Elektronik; Capacitance Tolerance: +/-20%; Dissipation Factor: 15%; Endurance: 2000h; Leakage Current: 19.2µA; Ripple Current: 155mA; Technical Reference: ATDD110121M016DSPA4B000; Category: Aluminum Electrolytic Capacitors; Match Code: WCAP-ATG5; ComponentLink1Description: Website Link; ComponentLink1URL: https://www.we-online.com/redexpert/article/860020373007?ad; ComponentLink2Description: Datasheet Link; ComponentLink2URL: https://www.we-online.com/redexpert/spec/860020373007?ad; Mount: Through Hole; Operating Temperature Max: 105°C; Operating Temperature Min: -40°C; Packaging: Ammo Pack; Height: 11mm; Diameter: 6.3mm; Capacitance: 120µF; Rated Voltage (DC): 16V
footprint WCAP-ATG5_D6.3H11
simulation model 860020373007_120uF
pins: 1 P, 2 N
text: +

## 860020373008
designator C?, comment 150µF  (value not drawn)
WCAP-ATG5 Aluminum Electrolytic Capacitor, Radial, THT, D6.3 x H11mm, 150µF, 16V; Manufacturer Part Number: 860020373008; Manufacturer: Wurth Elektronik; Capacitance Tolerance: +/-20%; Dissipation Factor: 15%; Endurance: 2000h; Leakage Current: 24µA; Ripple Current: 170mA; Technical Reference: ATDD110151M016DSPA4B000; Category: Aluminum Electrolytic Capacitors; Match Code: WCAP-ATG5; ComponentLink1Description: Website Link; ComponentLink1URL: https://www.we-online.com/redexpert/article/860020373008?ad; ComponentLink2Description: Datasheet Link; ComponentLink2URL: https://www.we-online.com/redexpert/spec/860020373008?ad; Mount: Through Hole; Operating Temperature Max: 105°C; Operating Temperature Min: -40°C; Packaging: Ammo Pack; Height: 11mm; Diameter: 6.3mm; Capacitance: 150µF; Rated Voltage (DC): 16V
footprint WCAP-ATG5_D6.3H11
simulation model 860020373008_150uF
pins: 1 P, 2 N
text: +

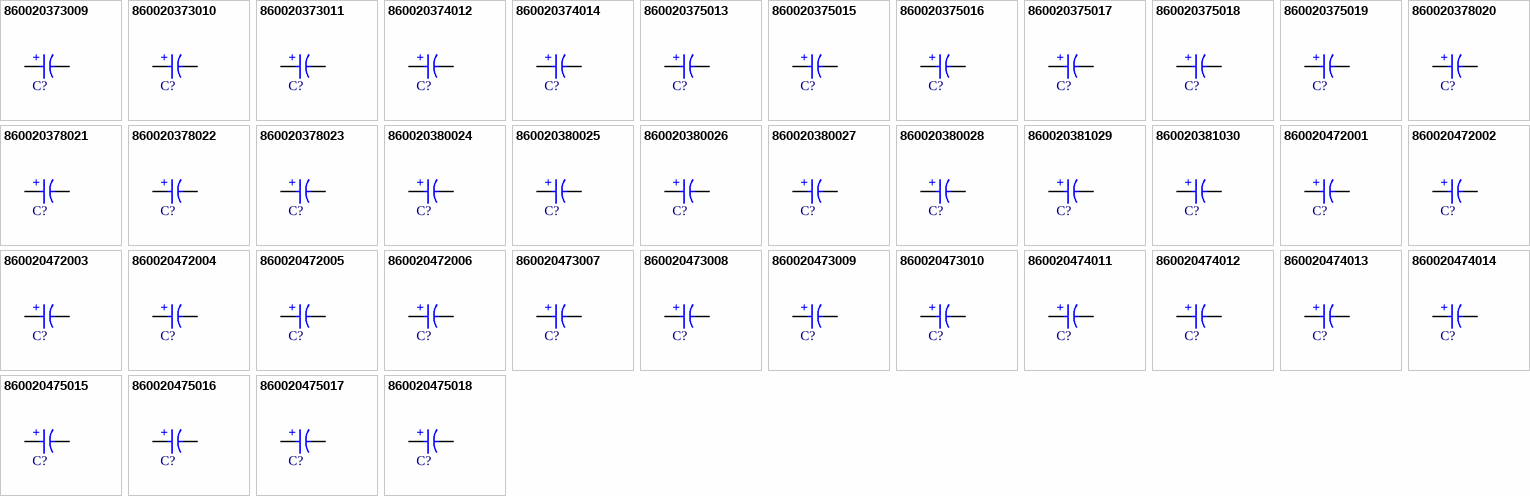
[diagram p1: symbols 860020373009 to 860020475018]

## 860020373009
designator C?, comment 180µF  (value not drawn)
WCAP-ATG5 Aluminum Electrolytic Capacitor, Radial, THT, D6.3 x H11mm, 180µF, 16V; Manufacturer Part Number: 860020373009; Manufacturer: Wurth Elektronik; Capacitance Tolerance: +/-20%; Dissipation Factor: 15%; Endurance: 2000h; Leakage Current: 28.8µA; Ripple Current: 190mA; Technical Reference: ATDD110181M016DSPA4B000; Category: Aluminum Electrolytic Capacitors; Match Code: WCAP-ATG5; ComponentLink1Description: Website Link; ComponentLink1URL: https://www.we-online.com/redexpert/article/860020373009?ad; ComponentLink2Description: Datasheet Link; ComponentLink2URL: https://www.we-online.com/redexpert/spec/860020373009?ad; Mount: Through Hole; Operating Temperature Max: 105°C; Operating Temperature Min: -40°C; Packaging: Ammo Pack; Height: 11mm; Diameter: 6.3mm; Capacitance: 180µF; Rated Voltage (DC): 16V
footprint WCAP-ATG5_D6.3H11
simulation model 860020373009_180uF
pins: 1 P, 2 N
text: +

## 860020373010
designator C?, comment 220µF  (value not drawn)
WCAP-ATG5 Aluminum Electrolytic Capacitor, Radial, THT, D6.3 x H11mm, 220µF, 16V; Manufacturer Part Number: 860020373010; Manufacturer: Wurth Elektronik; Capacitance Tolerance: +/-20%; Dissipation Factor: 15%; Endurance: 2000h; Leakage Current: 35.2µA; Ripple Current: 215mA; Technical Reference: ATDD110221M016DSPA4B000; Category: Aluminum Electrolytic Capacitors; Match Code: WCAP-ATG5; ComponentLink1Description: Website Link; ComponentLink1URL: https://www.we-online.com/redexpert/article/860020373010?ad; ComponentLink2Description: Datasheet Link; ComponentLink2URL: https://www.we-online.com/redexpert/spec/860020373010?ad; Mount: Through Hole; Operating Temperature Max: 105°C; Operating Temperature Min: -40°C; Packaging: Ammo Pack; Height: 11mm; Diameter: 6.3mm; Capacitance: 220µF; Rated Voltage (DC): 16V
footprint WCAP-ATG5_D6.3H11
simulation model 860020373010_220uF
pins: 1 P, 2 N
text: +

## 860020373011
designator C?, comment 330µF  (value not drawn)
WCAP-ATG5 Aluminum Electrolytic Capacitor, Radial, THT, D6.3 x H11mm, 330µF, 16V; Manufacturer Part Number: 860020373011; Manufacturer: Wurth Elektronik; Capacitance Tolerance: +/-20%; Dissipation Factor: 15%; Endurance: 2000h; Leakage Current: 52.8µA; Ripple Current: 225mA; Technical Reference: ATDD110331M016DSPA4B000; Category: Aluminum Electrolytic Capacitors; Match Code: WCAP-ATG5; ComponentLink1Description: Website Link; ComponentLink1URL: https://www.we-online.com/redexpert/article/860020373011?ad; ComponentLink2Description: Datasheet Link; ComponentLink2URL: https://www.we-online.com/redexpert/spec/860020373011?ad; Mount: Through Hole; Operating Temperature Max: 105°C; Operating Temperature Min: -40°C; Packaging: Ammo Pack; Height: 11mm; Diameter: 6.3mm; Capacitance: 330µF; Rated Voltage (DC): 16V
footprint WCAP-ATG5_D6.3H11
simulation model 860020373011_330uF
pins: 1 P, 2 N
text: +

## 860020374012
designator C?, comment 470µF  (value not drawn)
WCAP-ATG5 Aluminum Electrolytic Capacitor, Radial, THT, D8 x H11.5mm, 470µF, 16V; Manufacturer Part Number: 860020374012; Manufacturer: Wurth Elektronik; Capacitance Tolerance: +/-20%; Dissipation Factor: 15%; Endurance: 2000h; Leakage Current: 75.2µA; Ripple Current: 370mA; Technical Reference: ATDE115471M016DSPA7B000; Category: Aluminum Electrolytic Capacitors; Match Code: WCAP-ATG5; ComponentLink1Description: Website Link; ComponentLink1URL: https://www.we-online.com/redexpert/article/860020374012?ad; ComponentLink2Description: Datasheet Link; ComponentLink2URL: https://www.we-online.com/redexpert/spec/860020374012?ad; Mount: Through Hole; Operating Temperature Max: 105°C; Operating Temperature Min: -40°C; Packaging: Ammo Pack; Height: 11.5mm; Diameter: 8mm; Capacitance: 470µF; Rated Voltage (DC): 16V
footprint WCAP-ATG5_D8H11.5
simulation model 860020374012_470uF
pins: 1 P, 2 N
text: +

## 860020374014
designator C?, comment 680µF  (value not drawn)
WCAP-ATG5 Aluminum Electrolytic Capacitor, Radial, THT, D8 x H16mm, 680µF, 16V; Manufacturer Part Number: 860020374014; Manufacturer: Wurth Elektronik; Capacitance Tolerance: +/-20%; Dissipation Factor: 15%; Endurance: 2000h; Leakage Current: 108.8µA; Ripple Current: 470mA; Technical Reference: ATDE160681M016DSPA7B000; Category: Aluminum Electrolytic Capacitors; Match Code: WCAP-ATG5; ComponentLink1Description: Website Link; ComponentLink1URL: https://www.we-online.com/redexpert/article/860020374014?ad; ComponentLink2Description: Datasheet Link; ComponentLink2URL: https://www.we-online.com/redexpert/spec/860020374014?ad; Mount: Through Hole; Operating Temperature Max: 105°C; Operating Temperature Min: -40°C; Packaging: Ammo Pack; Height: 16mm; Diameter: 8mm; Capacitance: 680µF; Rated Voltage (DC): 16V
footprint WCAP-ATG5_D8H16
simulation model 860020374014_680uF
pins: 1 P, 2 N
text: +

## 860020375013
designator C?, comment 560µF  (value not drawn)
WCAP-ATG5 Aluminum Electrolytic Capacitor, Radial, THT, D10 x H12.5mm, 560µF, 16V; Manufacturer Part Number: 860020375013; Manufacturer: Wurth Elektronik; Capacitance Tolerance: +/-20%; Dissipation Factor: 15%; Endurance: 2000h; Leakage Current: 89.6µA; Ripple Current: 410mA; Technical Reference: ATDF125561M016DSPA9B000; Category: Aluminum Electrolytic Capacitors; Match Code: WCAP-ATG5; ComponentLink1Description: Website Link; ComponentLink1URL: https://www.we-online.com/redexpert/article/860020375013?ad; ComponentLink2Description: Datasheet Link; ComponentLink2URL: https://www.we-online.com/redexpert/spec/860020375013?ad; Mount: Through Hole; Operating Temperature Max: 105°C; Operating Temperature Min: -40°C; Packaging: Ammo Pack; Height: 12.5mm; Diameter: 10mm; Capacitance: 560µF; Rated Voltage (DC): 16V
footprint WCAP-ATG5_D10H12.5
simulation model 860020375013_560uF
pins: 1 P, 2 N
text: +

## 860020375015
designator C?, comment 680µF  (value not drawn)
WCAP-ATG5 Aluminum Electrolytic Capacitor, Radial, THT, D10 x H12.5mm, 680µF, 16V; Manufacturer Part Number: 860020375015; Manufacturer: Wurth Elektronik; Capacitance Tolerance: +/-20%; Dissipation Factor: 15%; Endurance: 2000h; Leakage Current: 108.8µA; Ripple Current: 480mA; Technical Reference: ATDF125681M016DSPA9B000; Category: Aluminum Electrolytic Capacitors; Match Code: WCAP-ATG5; ComponentLink1Description: Website Link; ComponentLink1URL: https://www.we-online.com/redexpert/article/860020375015?ad; ComponentLink2Description: Datasheet Link; ComponentLink2URL: https://www.we-online.com/redexpert/spec/860020375015?ad; Mount: Through Hole; Operating Temperature Max: 105°C; Operating Temperature Min: -40°C; Packaging: Ammo Pack; Height: 12.5mm; Diameter: 10mm; Capacitance: 680µF; Rated Voltage (DC): 16V
footprint WCAP-ATG5_D10H12.5
simulation model 860020375015_680uF
pins: 1 P, 2 N
text: +

## 860020375016
designator C?, comment 820µF  (value not drawn)
WCAP-ATG5 Aluminum Electrolytic Capacitor, Radial, THT, D10 x H16mm, 820µF, 16V; Manufacturer Part Number: 860020375016; Manufacturer: Wurth Elektronik; Capacitance Tolerance: +/-20%; Dissipation Factor: 15%; Endurance: 2000h; Leakage Current: 131.2µA; Ripple Current: 550mA; Technical Reference: ATDF160821M016DSPAAB000; Category: Aluminum Electrolytic Capacitors; Match Code: WCAP-ATG5; ComponentLink1Description: Website Link; ComponentLink1URL: https://www.we-online.com/redexpert/article/860020375016?ad; ComponentLink2Description: Datasheet Link; ComponentLink2URL: https://www.we-online.com/redexpert/spec/860020375016?ad; Mount: Through Hole; Operating Temperature Max: 105°C; Operating Temperature Min: -40°C; Packaging: Ammo Pack; Height: 16mm; Diameter: 10mm; Capacitance: 820µF; Rated Voltage (DC): 16V
footprint WCAP-ATG5_D10H16
simulation model 860020375016_820uF
pins: 1 P, 2 N
text: +

## 860020375017
designator C?, comment 1000µF  (value not drawn)
WCAP-ATG5 Aluminum Electrolytic Capacitor, Radial, THT, D10 x H12.5mm, 1000µF, 16V; Manufacturer Part Number: 860020375017; Manufacturer: Wurth Elektronik; Capacitance Tolerance: +/-20%; Dissipation Factor: 15%; Endurance: 2000h; Leakage Current: 160µA; Ripple Current: 540mA; Technical Reference: ATDF125102M016DSPA9B000; Category: Aluminum Electrolytic Capacitors; Match Code: WCAP-ATG5; ComponentLink1Description: Website Link; ComponentLink1URL: https://www.we-online.com/redexpert/article/860020375017?ad; ComponentLink2Description: Datasheet Link; ComponentLink2URL: https://www.we-online.com/redexpert/spec/860020375017?ad; Mount: Through Hole; Operating Temperature Max: 105°C; Operating Temperature Min: -40°C; Packaging: Ammo Pack; Height: 12.5mm; Diameter: 10mm; Capacitance: 1000µF; Rated Voltage (DC): 16V
footprint WCAP-ATG5_D10H12.5
simulation model 860020375017_1mF
pins: 1 P, 2 N
text: +

## 860020375018
designator C?, comment 1200µF  (value not drawn)
WCAP-ATG5 Aluminum Electrolytic Capacitor, Radial, THT, D10 x H20mm, 1200µF, 16V; Manufacturer Part Number: 860020375018; Manufacturer: Wurth Elektronik; Capacitance Tolerance: +/-20%; Dissipation Factor: 15%; Endurance: 2000h; Leakage Current: 192µA; Ripple Current: 700mA; Technical Reference: ATDF200122M016DSPAAB000; Category: Aluminum Electrolytic Capacitors; Match Code: WCAP-ATG5; ComponentLink1Description: Website Link; ComponentLink1URL: https://www.we-online.com/redexpert/article/860020375018?ad; ComponentLink2Description: Datasheet Link; ComponentLink2URL: https://www.we-online.com/redexpert/spec/860020375018?ad; Mount: Through Hole; Operating Temperature Max: 105°C; Operating Temperature Min: -40°C; Packaging: Ammo Pack; Height: 20mm; Diameter: 10mm; Capacitance: 1200µF; Rated Voltage (DC): 16V
footprint WCAP-ATG5_D10H20
simulation model 860020375018_1.2mF
pins: 1 P, 2 N
text: +

## 860020375019
designator C?, comment 1500µF  (value not drawn)
WCAP-ATG5 Aluminum Electrolytic Capacitor, Radial, THT, D10 x H20mm, 1500µF, 16V; Manufacturer Part Number: 860020375019; Manufacturer: Wurth Elektronik; Capacitance Tolerance: +/-20%; Dissipation Factor: 15%; Endurance: 2000h; Leakage Current: 240µA; Ripple Current: 820mA; Technical Reference: ATDF200152M016DSPAAB000; Category: Aluminum Electrolytic Capacitors; Match Code: WCAP-ATG5; ComponentLink1Description: Website Link; ComponentLink1URL: https://www.we-online.com/redexpert/article/860020375019?ad; ComponentLink2Description: Datasheet Link; ComponentLink2URL: https://www.we-online.com/redexpert/spec/860020375019?ad; Mount: Through Hole; Operating Temperature Max: 105°C; Operating Temperature Min: -40°C; Packaging: Ammo Pack; Height: 20mm; Diameter: 10mm; Capacitance: 1500µF; Rated Voltage (DC): 16V
footprint WCAP-ATG5_D10H20
simulation model 860020375019_1.5mF
pins: 1 P, 2 N
text: +